# EAGLE library part MMDT5401 (library rpibout)
Dual PNP Small Signal Transistor
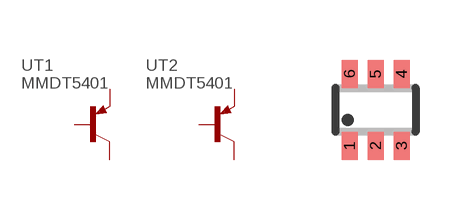
[diagram p1: symbol with the pads of SOT363; footprint SOT363]

Designator prefix U; gates T1=PNP T2=PNP

## MMDT5401  [SOT363]
1  T1:E  pas
2  T1:B  pas
3  T2:C  pas
4  T2:E  pas
5  T2:B  pas
6  T1:C  pas

## Footprint SOT363 (pad centres in mm)
Small Outline Transistor SOT363 6 leads
smd 0.4 x 0.7: 1 -0.65,-0.9; 2 0,-0.9; 3 0.65,-0.9; 4 0.65,0.9; 5 0,0.9; 6 -0.65,0.9